# EAGLE library part NC7SB3157 (library mLab_PressureMat)
Two-channel analog mux (datasheet <https://www.fairchildsemi.com/datasheets/NC/NC7SB3157.pdf>)
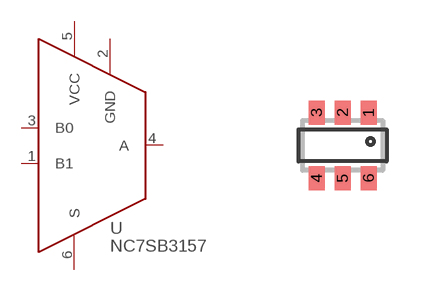
[diagram p3: symbol with the pads of SC70-6; footprint SC70-6]

Designator prefix -

## NC7SB3157  [SC70-6]
1  B1
2  GND
3  B0
4  A
5  VCC
6  S

## Footprint SC70-6 (pad centres in mm)
SC70-6 SMD package.
smd 0.4 x 0.6: 1 0.65,0.82; 2 0,0.82; 3 -0.65,0.82; 4 -0.65,-0.82; 5 0,-0.82; 6 0.65,-0.82